# Altium integrated library National Semiconductor Switcher.IntLib: 2226 symbols (part 17 of 59)
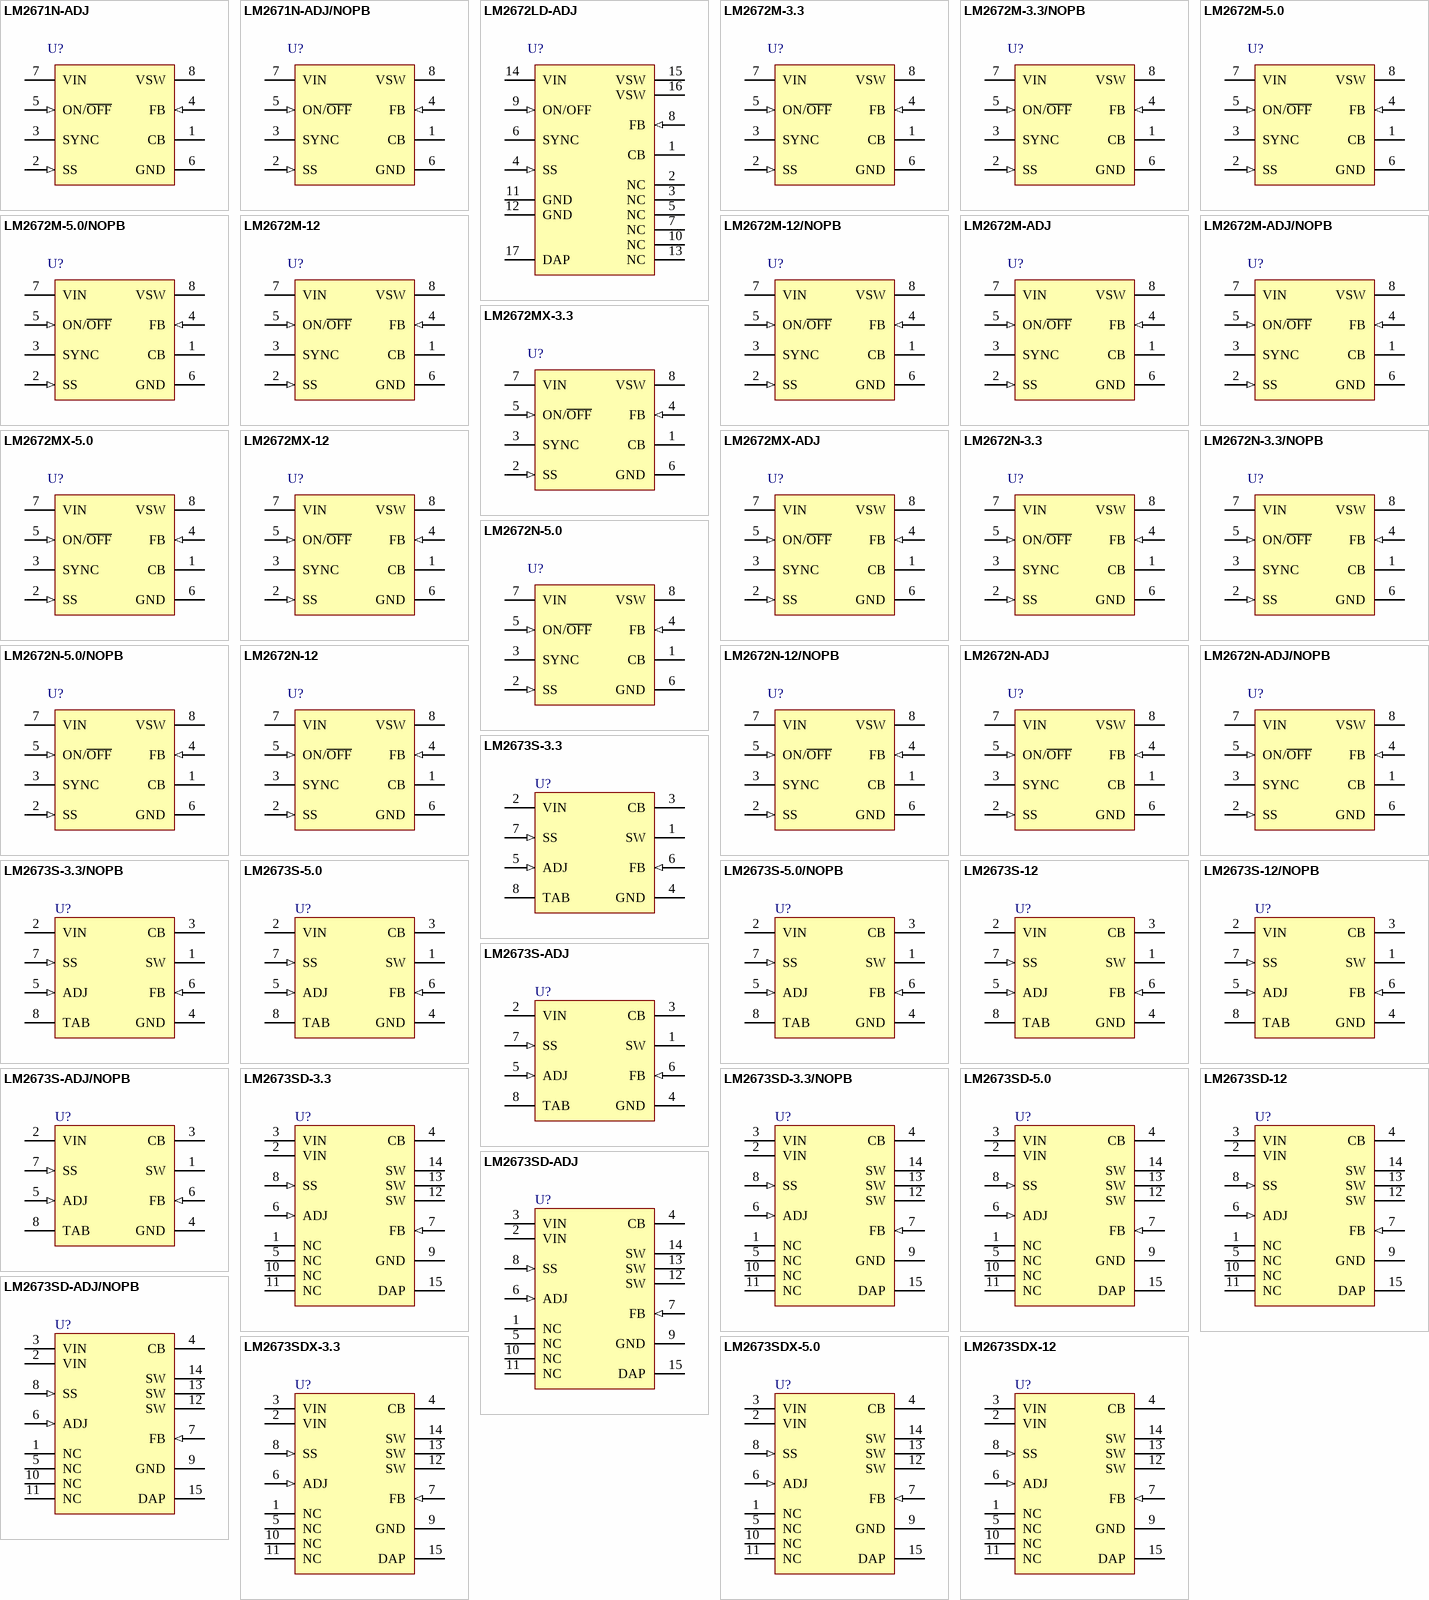
[diagram p85: symbols LM2671N-ADJ to LM2673SDX-12]

## LM2672N-3.3/NOPB
designator U?
SIMPLE SWITCHER® Power Converter High Efficiency 1A Step-Down Voltage Regulator with Features, 8-pin MDIP, Pb-Free; PartNumber: LM2672N-3.3/NOPB; Manufacturer: National Semiconductor; PackageTopMarking: NSUZXYTTE#*LM2672*N-3.3; PowerWise: N; High-Reliability: Y; DatasheetVersion: Apr-2007; PackageVersion: revG, May-2006; PackageReference: N08E; PackageDescription: MDIP, .365 x .250 x .130in, 8 Lead, .100in Pitch; RoHS: Y; PinCount: 8; CompType: Switcher; Code_JEDEC: MS-001-BA; ComponentLink1Description: Manufacturer URL; ComponentLink1URL: http://www.national.com/; ComponentLink2Description: LM2672 Datasheet; ComponentLink2URL: http://www.national.com/ds/LM/LM2672.pdf; ComponentLink3Description: LM2672 Web Page; ComponentLink3URL: http://www.national.com/pf/LM/LM2672.html; ComponentLink4Description: N08E Package Page; ComponentLink4URL: http://www.national.com/packaging/folders/n08e.html
footprint N08E (DIP, 8-Leads, Row Spacing 7.62mm, Pitch 2.54mm, Body 9.91x6.35mm)
pins: 1 CB, 2 SS (in), 3 SYNC, 4 FB (in), 5 ON/~{OFF} (in), 6 GND (power), 7 VIN (power), 8 VSW (power)

## LM2672N-5.0
designator U?
SIMPLE SWITCHER® Power Converter High Efficiency 1A Step-Down Voltage Regulator with Features, 8-pin MDIP; PartNumber: LM2672N-5.0; Manufacturer: National Semiconductor; PackageTopMarking: NSUZXYTTE#*LM2672*N-5.0; PowerWise: N; High-Reliability: Y; DatasheetVersion: Apr-2007; PackageVersion: revG, May-2006; PackageReference: N08E; PackageDescription: MDIP, .365 x .250 x .130in, 8 Lead, .100in Pitch; RoHS: N; PinCount: 8; CompType: Switcher; Code_JEDEC: MS-001-BA; ComponentLink1Description: Manufacturer URL; ComponentLink1URL: http://www.national.com/; ComponentLink2Description: LM2672 Datasheet; ComponentLink2URL: http://www.national.com/ds/LM/LM2672.pdf; ComponentLink3Description: LM2672 Web Page; ComponentLink3URL: http://www.national.com/pf/LM/LM2672.html; ComponentLink4Description: N08E Package Page; ComponentLink4URL: http://www.national.com/packaging/folders/n08e.html
footprint N08E (DIP, 8-Leads, Row Spacing 7.62mm, Pitch 2.54mm, Body 9.91x6.35mm)
pins: 1 CB, 2 SS (in), 3 SYNC, 4 FB (in), 5 ON/~{OFF} (in), 6 GND (power), 7 VIN (power), 8 VSW (power)

## LM2672N-5.0/NOPB
designator U?
SIMPLE SWITCHER® Power Converter High Efficiency 1A Step-Down Voltage Regulator with Features, 8-pin MDIP, Pb-Free; PartNumber: LM2672N-5.0/NOPB; Manufacturer: National Semiconductor; PackageTopMarking: NSUZXYTTE#*LM2672*N-5.0; PowerWise: N; High-Reliability: Y; DatasheetVersion: Apr-2007; PackageVersion: revG, May-2006; PackageReference: N08E; PackageDescription: MDIP, .365 x .250 x .130in, 8 Lead, .100in Pitch; RoHS: Y; PinCount: 8; CompType: Switcher; Code_JEDEC: MS-001-BA; ComponentLink1Description: Manufacturer URL; ComponentLink1URL: http://www.national.com/; ComponentLink2Description: LM2672 Datasheet; ComponentLink2URL: http://www.national.com/ds/LM/LM2672.pdf; ComponentLink3Description: LM2672 Web Page; ComponentLink3URL: http://www.national.com/pf/LM/LM2672.html; ComponentLink4Description: N08E Package Page; ComponentLink4URL: http://www.national.com/packaging/folders/n08e.html
footprint N08E (DIP, 8-Leads, Row Spacing 7.62mm, Pitch 2.54mm, Body 9.91x6.35mm)
pins: 1 CB, 2 SS (in), 3 SYNC, 4 FB (in), 5 ON/~{OFF} (in), 6 GND (power), 7 VIN (power), 8 VSW (power)

## LM2672N-12
designator U?
SIMPLE SWITCHER® Power Converter High Efficiency 1A Step-Down Voltage Regulator with Features, 8-pin MDIP; PartNumber: LM2672N-12; Manufacturer: National Semiconductor; PackageTopMarking: NSUZXYTTE#*LM2672*N-12; PowerWise: N; High-Reliability: Y; DatasheetVersion: Apr-2007; PackageVersion: revG, May-2006; PackageReference: N08E; PackageDescription: MDIP, .365 x .250 x .130in, 8 Lead, .100in Pitch; RoHS: N; PinCount: 8; CompType: Switcher; Code_JEDEC: MS-001-BA; ComponentLink1Description: Manufacturer URL; ComponentLink1URL: http://www.national.com/; ComponentLink2Description: LM2672 Datasheet; ComponentLink2URL: http://www.national.com/ds/LM/LM2672.pdf; ComponentLink3Description: LM2672 Web Page; ComponentLink3URL: http://www.national.com/pf/LM/LM2672.html; ComponentLink4Description: N08E Package Page; ComponentLink4URL: http://www.national.com/packaging/folders/n08e.html
footprint N08E (DIP, 8-Leads, Row Spacing 7.62mm, Pitch 2.54mm, Body 9.91x6.35mm)
pins: 1 CB, 2 SS (in), 3 SYNC, 4 FB (in), 5 ON/~{OFF} (in), 6 GND (power), 7 VIN (power), 8 VSW (power)

## LM2672N-12/NOPB
designator U?
SIMPLE SWITCHER® Power Converter High Efficiency 1A Step-Down Voltage Regulator with Features, 8-pin MDIP, Pb-Free; PartNumber: LM2672N-12/NOPB; Manufacturer: National Semiconductor; PackageTopMarking: NSUZXYTTE#*LM2672*N-12; PowerWise: N; High-Reliability: Y; DatasheetVersion: Apr-2007; PackageVersion: revG, May-2006; PackageReference: N08E; PackageDescription: MDIP, .365 x .250 x .130in, 8 Lead, .100in Pitch; RoHS: Y; PinCount: 8; CompType: Switcher; Code_JEDEC: MS-001-BA; ComponentLink1Description: Manufacturer URL; ComponentLink1URL: http://www.national.com/; ComponentLink2Description: LM2672 Datasheet; ComponentLink2URL: http://www.national.com/ds/LM/LM2672.pdf; ComponentLink3Description: LM2672 Web Page; ComponentLink3URL: http://www.national.com/pf/LM/LM2672.html; ComponentLink4Description: N08E Package Page; ComponentLink4URL: http://www.national.com/packaging/folders/n08e.html
footprint N08E (DIP, 8-Leads, Row Spacing 7.62mm, Pitch 2.54mm, Body 9.91x6.35mm)
pins: 1 CB, 2 SS (in), 3 SYNC, 4 FB (in), 5 ON/~{OFF} (in), 6 GND (power), 7 VIN (power), 8 VSW (power)

## LM2672N-ADJ
designator U?
SIMPLE SWITCHER® Power Converter High Efficiency 1A Step-Down Voltage Regulator with Features, 8-pin MDIP; PartNumber: LM2672N-ADJ; Manufacturer: National Semiconductor; PackageTopMarking: NSUZXYTTE#*LM2672*N-ADJ; PowerWise: N; High-Reliability: Y; DatasheetVersion: Apr-2007; PackageVersion: revG, May-2006; PackageReference: N08E; PackageDescription: MDIP, .365 x .250 x .130in, 8 Lead, .100in Pitch; RoHS: N; PinCount: 8; CompType: Switcher; Code_JEDEC: MS-001-BA; ComponentLink1Description: Manufacturer URL; ComponentLink1URL: http://www.national.com/; ComponentLink2Description: LM2672 Datasheet; ComponentLink2URL: http://www.national.com/ds/LM/LM2672.pdf; ComponentLink3Description: LM2672 Web Page; ComponentLink3URL: http://www.national.com/pf/LM/LM2672.html; ComponentLink4Description: N08E Package Page; ComponentLink4URL: http://www.national.com/packaging/folders/n08e.html
footprint N08E (DIP, 8-Leads, Row Spacing 7.62mm, Pitch 2.54mm, Body 9.91x6.35mm)
pins: 1 CB, 2 SS (in), 3 SYNC, 4 FB (in), 5 ON/~{OFF} (in), 6 GND (power), 7 VIN (power), 8 VSW (power)

## LM2672N-ADJ/NOPB
designator U?
SIMPLE SWITCHER® Power Converter High Efficiency 1A Step-Down Voltage Regulator with Features, 8-pin MDIP, Pb-Free; PartNumber: LM2672N-ADJ/NOPB; Manufacturer: National Semiconductor; PackageTopMarking: NSUZXYTTE#*LM2672*N-ADJ; PowerWise: N; High-Reliability: Y; DatasheetVersion: Apr-2007; PackageVersion: revG, May-2006; PackageReference: N08E; PackageDescription: MDIP, .365 x .250 x .130in, 8 Lead, .100in Pitch; RoHS: Y; PinCount: 8; CompType: Switcher; Code_JEDEC: MS-001-BA; ComponentLink1Description: Manufacturer URL; ComponentLink1URL: http://www.national.com/; ComponentLink2Description: LM2672 Datasheet; ComponentLink2URL: http://www.national.com/ds/LM/LM2672.pdf; ComponentLink3Description: LM2672 Web Page; ComponentLink3URL: http://www.national.com/pf/LM/LM2672.html; ComponentLink4Description: N08E Package Page; ComponentLink4URL: http://www.national.com/packaging/folders/n08e.html
footprint N08E (DIP, 8-Leads, Row Spacing 7.62mm, Pitch 2.54mm, Body 9.91x6.35mm)
pins: 1 CB, 2 SS (in), 3 SYNC, 4 FB (in), 5 ON/~{OFF} (in), 6 GND (power), 7 VIN (power), 8 VSW (power)

## LM2673S-3.3
designator U?
3A Step-Down Voltage Regulator with Adjustable Current Limit, 7-pin TO-263; PartNumber: LM2673S-3.3; Manufacturer: National Semiconductor; PackageTopMarking: NSUZXYTTE#*LM2673*S-3.3; PowerWise: N; CompType: Switcher; High-Reliability: Y; DatasheetVersion: Feb-2008; PackageVersion: revE, Jul-2003; PackageReference: TS7B; PackageDescription: TO-263, Molded, .400 x .390 x .180in Body, 7 Lead, .050in Pitch, Surface Mount; RoHS: N; PinCount: 7; Code_JEDEC: MO-169-AC; ComponentLink1Description: Manufacturer URL; ComponentLink1URL: http://www.national.com/; ComponentLink2Description: LM2673 Datasheet; ComponentLink2URL: http://www.national.com/ds/LM/LM2673.pdf; ComponentLink3Description: LM2673 Web Page; ComponentLink3URL: http://www.national.com/pf/LM/LM2673.html; ComponentLink4Description: TS7B Package Page; ComponentLink4URL: http://www.national.com/packaging/folders/ts7b.html
footprint TS7B_N (D2-PAK, 8-Leads, Body 8.6x10.2mm, Pitch 1.27mm, Lead Span 14.1mm, IPC Medium Density)
footprint TS7B_L (D2-PAK, 8-Leads, Body 8.6x10.2mm, Pitch 1.27mm, Lead Span 14.1mm, IPC High Density)
footprint TS7B_M (D2-PAK, 8-Leads, Body 8.6x10.2mm, Pitch 1.27mm, Lead Span 14.1mm, IPC Low Density)
pins: 1 SW (power), 2 VIN (power), 3 CB, 4 GND (power), 5 ADJ (in), 6 FB (in), 7 SS (in), 8 TAB (power)

## LM2673S-3.3/NOPB
designator U?
3A Step-Down Voltage Regulator with Adjustable Current Limit, 7-pin TO-263, Pb-Free; PartNumber: LM2673S-3.3/NOPB; Manufacturer: National Semiconductor; PackageTopMarking: NSUZXYTTE#*LM2673*S-3.3; PowerWise: N; CompType: Switcher; High-Reliability: Y; DatasheetVersion: Feb-2008; PackageVersion: revE, Jul-2003; PackageReference: TS7B; PackageDescription: TO-263, Molded, .400 x .390 x .180in Body, 7 Lead, .050in Pitch, Surface Mount; RoHS: Y; PinCount: 7; Code_JEDEC: MO-169-AC; ComponentLink1Description: Manufacturer URL; ComponentLink1URL: http://www.national.com/; ComponentLink2Description: LM2673 Datasheet; ComponentLink2URL: http://www.national.com/ds/LM/LM2673.pdf; ComponentLink3Description: LM2673 Web Page; ComponentLink3URL: http://www.national.com/pf/LM/LM2673.html; ComponentLink4Description: TS7B Package Page; ComponentLink4URL: http://www.national.com/packaging/folders/ts7b.html
footprint TS7B_N (D2-PAK, 8-Leads, Body 8.6x10.2mm, Pitch 1.27mm, Lead Span 14.1mm, IPC Medium Density)
footprint TS7B_L (D2-PAK, 8-Leads, Body 8.6x10.2mm, Pitch 1.27mm, Lead Span 14.1mm, IPC High Density)
footprint TS7B_M (D2-PAK, 8-Leads, Body 8.6x10.2mm, Pitch 1.27mm, Lead Span 14.1mm, IPC Low Density)
pins: 1 SW (power), 2 VIN (power), 3 CB, 4 GND (power), 5 ADJ (in), 6 FB (in), 7 SS (in), 8 TAB (power)

## LM2673S-5.0
designator U?
3A Step-Down Voltage Regulator with Adjustable Current Limit, 7-pin TO-263; PartNumber: LM2673S-5.0; Manufacturer: National Semiconductor; PackageTopMarking: NSUZXYTTE#*LM2673*S-5.0; PowerWise: N; CompType: Switcher; High-Reliability: Y; DatasheetVersion: Feb-2008; PackageVersion: revE, Jul-2003; PackageReference: TS7B; PackageDescription: TO-263, Molded, .400 x .390 x .180in Body, 7 Lead, .050in Pitch, Surface Mount; RoHS: N; PinCount: 7; Code_JEDEC: MO-169-AC; ComponentLink1Description: Manufacturer URL; ComponentLink1URL: http://www.national.com/; ComponentLink2Description: LM2673 Datasheet; ComponentLink2URL: http://www.national.com/ds/LM/LM2673.pdf; ComponentLink3Description: LM2673 Web Page; ComponentLink3URL: http://www.national.com/pf/LM/LM2673.html; ComponentLink4Description: TS7B Package Page; ComponentLink4URL: http://www.national.com/packaging/folders/ts7b.html
footprint TS7B_N (D2-PAK, 8-Leads, Body 8.6x10.2mm, Pitch 1.27mm, Lead Span 14.1mm, IPC Medium Density)
footprint TS7B_L (D2-PAK, 8-Leads, Body 8.6x10.2mm, Pitch 1.27mm, Lead Span 14.1mm, IPC High Density)
footprint TS7B_M (D2-PAK, 8-Leads, Body 8.6x10.2mm, Pitch 1.27mm, Lead Span 14.1mm, IPC Low Density)
pins: 1 SW (power), 2 VIN (power), 3 CB, 4 GND (power), 5 ADJ (in), 6 FB (in), 7 SS (in), 8 TAB (power)

## LM2673S-5.0/NOPB
designator U?
3A Step-Down Voltage Regulator with Adjustable Current Limit, 7-pin TO-263, Pb-Free; PartNumber: LM2673S-5.0/NOPB; Manufacturer: National Semiconductor; PackageTopMarking: NSUZXYTTE#*LM2673*S-5.0; PowerWise: N; CompType: Switcher; High-Reliability: Y; DatasheetVersion: Feb-2008; PackageVersion: revE, Jul-2003; PackageReference: TS7B; PackageDescription: TO-263, Molded, .400 x .390 x .180in Body, 7 Lead, .050in Pitch, Surface Mount; RoHS: Y; PinCount: 7; Code_JEDEC: MO-169-AC; ComponentLink1Description: Manufacturer URL; ComponentLink1URL: http://www.national.com/; ComponentLink2Description: LM2673 Datasheet; ComponentLink2URL: http://www.national.com/ds/LM/LM2673.pdf; ComponentLink3Description: LM2673 Web Page; ComponentLink3URL: http://www.national.com/pf/LM/LM2673.html; ComponentLink4Description: TS7B Package Page; ComponentLink4URL: http://www.national.com/packaging/folders/ts7b.html
footprint TS7B_N (D2-PAK, 8-Leads, Body 8.6x10.2mm, Pitch 1.27mm, Lead Span 14.1mm, IPC Medium Density)
footprint TS7B_L (D2-PAK, 8-Leads, Body 8.6x10.2mm, Pitch 1.27mm, Lead Span 14.1mm, IPC High Density)
footprint TS7B_M (D2-PAK, 8-Leads, Body 8.6x10.2mm, Pitch 1.27mm, Lead Span 14.1mm, IPC Low Density)
pins: 1 SW (power), 2 VIN (power), 3 CB, 4 GND (power), 5 ADJ (in), 6 FB (in), 7 SS (in), 8 TAB (power)

## LM2673S-12
designator U?
3A Step-Down Voltage Regulator with Adjustable Current Limit, 7-pin TO-263; PartNumber: LM2673S-12; Manufacturer: National Semiconductor; PackageTopMarking: NSUZXYTTE#*LM2673*S-12; PowerWise: N; CompType: Switcher; High-Reliability: Y; DatasheetVersion: Feb-2008; PackageVersion: revE, Jul-2003; PackageReference: TS7B; PackageDescription: TO-263, Molded, .400 x .390 x .180in Body, 7 Lead, .050in Pitch, Surface Mount; RoHS: N; PinCount: 7; Code_JEDEC: MO-169-AC; ComponentLink1Description: Manufacturer URL; ComponentLink1URL: http://www.national.com/; ComponentLink2Description: LM2673 Datasheet; ComponentLink2URL: http://www.national.com/ds/LM/LM2673.pdf; ComponentLink3Description: LM2673 Web Page; ComponentLink3URL: http://www.national.com/pf/LM/LM2673.html; ComponentLink4Description: TS7B Package Page; ComponentLink4URL: http://www.national.com/packaging/folders/ts7b.html
footprint TS7B_N (D2-PAK, 8-Leads, Body 8.6x10.2mm, Pitch 1.27mm, Lead Span 14.1mm, IPC Medium Density)
footprint TS7B_L (D2-PAK, 8-Leads, Body 8.6x10.2mm, Pitch 1.27mm, Lead Span 14.1mm, IPC High Density)
footprint TS7B_M (D2-PAK, 8-Leads, Body 8.6x10.2mm, Pitch 1.27mm, Lead Span 14.1mm, IPC Low Density)
pins: 1 SW (power), 2 VIN (power), 3 CB, 4 GND (power), 5 ADJ (in), 6 FB (in), 7 SS (in), 8 TAB (power)

## LM2673S-12/NOPB
designator U?
3A Step-Down Voltage Regulator with Adjustable Current Limit, 7-pin TO-263, Pb-Free; PartNumber: LM2673S-12/NOPB; Manufacturer: National Semiconductor; PackageTopMarking: NSUZXYTTE#*LM2673*S-12; PowerWise: N; CompType: Switcher; High-Reliability: Y; DatasheetVersion: Feb-2008; PackageVersion: revE, Jul-2003; PackageReference: TS7B; PackageDescription: TO-263, Molded, .400 x .390 x .180in Body, 7 Lead, .050in Pitch, Surface Mount; RoHS: Y; PinCount: 7; Code_JEDEC: MO-169-AC; ComponentLink1Description: Manufacturer URL; ComponentLink1URL: http://www.national.com/; ComponentLink2Description: LM2673 Datasheet; ComponentLink2URL: http://www.national.com/ds/LM/LM2673.pdf; ComponentLink3Description: LM2673 Web Page; ComponentLink3URL: http://www.national.com/pf/LM/LM2673.html; ComponentLink4Description: TS7B Package Page; ComponentLink4URL: http://www.national.com/packaging/folders/ts7b.html
footprint TS7B_N (D2-PAK, 8-Leads, Body 8.6x10.2mm, Pitch 1.27mm, Lead Span 14.1mm, IPC Medium Density)
footprint TS7B_L (D2-PAK, 8-Leads, Body 8.6x10.2mm, Pitch 1.27mm, Lead Span 14.1mm, IPC High Density)
footprint TS7B_M (D2-PAK, 8-Leads, Body 8.6x10.2mm, Pitch 1.27mm, Lead Span 14.1mm, IPC Low Density)
pins: 1 SW (power), 2 VIN (power), 3 CB, 4 GND (power), 5 ADJ (in), 6 FB (in), 7 SS (in), 8 TAB (power)

## LM2673S-ADJ
designator U?
3A Step-Down Voltage Regulator with Adjustable Current Limit, 7-pin TO-263; PartNumber: LM2673S-ADJ; Manufacturer: National Semiconductor; PackageTopMarking: NSUZXYTTE#*LM2673*S-ADJ; PowerWise: N; CompType: Switcher; High-Reliability: Y; DatasheetVersion: Feb-2008; PackageVersion: revE, Jul-2003; PackageReference: TS7B; PackageDescription: TO-263, Molded, .400 x .390 x .180in Body, 7 Lead, .050in Pitch, Surface Mount; RoHS: N; PinCount: 7; Code_JEDEC: MO-169-AC; ComponentLink1Description: Manufacturer URL; ComponentLink1URL: http://www.national.com/; ComponentLink2Description: LM2673 Datasheet; ComponentLink2URL: http://www.national.com/ds/LM/LM2673.pdf; ComponentLink3Description: LM2673 Web Page; ComponentLink3URL: http://www.national.com/pf/LM/LM2673.html; ComponentLink4Description: TS7B Package Page; ComponentLink4URL: http://www.national.com/packaging/folders/ts7b.html
footprint TS7B_N (D2-PAK, 8-Leads, Body 8.6x10.2mm, Pitch 1.27mm, Lead Span 14.1mm, IPC Medium Density)
footprint TS7B_L (D2-PAK, 8-Leads, Body 8.6x10.2mm, Pitch 1.27mm, Lead Span 14.1mm, IPC High Density)
footprint TS7B_M (D2-PAK, 8-Leads, Body 8.6x10.2mm, Pitch 1.27mm, Lead Span 14.1mm, IPC Low Density)
pins: 1 SW (power), 2 VIN (power), 3 CB, 4 GND (power), 5 ADJ (in), 6 FB (in), 7 SS (in), 8 TAB (power)

## LM2673S-ADJ/NOPB
designator U?
3A Step-Down Voltage Regulator with Adjustable Current Limit, 7-pin TO-263, Pb-Free; PartNumber: LM2673S-ADJ/NOPB; Manufacturer: National Semiconductor; PackageTopMarking: NSUZXYTTE#*LM2673*S-ADJ; PowerWise: N; CompType: Switcher; High-Reliability: Y; DatasheetVersion: Feb-2008; PackageVersion: revE, Jul-2003; PackageReference: TS7B; PackageDescription: TO-263, Molded, .400 x .390 x .180in Body, 7 Lead, .050in Pitch, Surface Mount; RoHS: Y; PinCount: 7; Code_JEDEC: MO-169-AC; ComponentLink1Description: Manufacturer URL; ComponentLink1URL: http://www.national.com/; ComponentLink2Description: LM2673 Datasheet; ComponentLink2URL: http://www.national.com/ds/LM/LM2673.pdf; ComponentLink3Description: LM2673 Web Page; ComponentLink3URL: http://www.national.com/pf/LM/LM2673.html; ComponentLink4Description: TS7B Package Page; ComponentLink4URL: http://www.national.com/packaging/folders/ts7b.html
footprint TS7B_N (D2-PAK, 8-Leads, Body 8.6x10.2mm, Pitch 1.27mm, Lead Span 14.1mm, IPC Medium Density)
footprint TS7B_L (D2-PAK, 8-Leads, Body 8.6x10.2mm, Pitch 1.27mm, Lead Span 14.1mm, IPC High Density)
footprint TS7B_M (D2-PAK, 8-Leads, Body 8.6x10.2mm, Pitch 1.27mm, Lead Span 14.1mm, IPC Low Density)
pins: 1 SW (power), 2 VIN (power), 3 CB, 4 GND (power), 5 ADJ (in), 6 FB (in), 7 SS (in), 8 TAB (power)

## LM2673SD-3.3
designator U?
3A Step-Down Voltage Regulator with Adjustable Current Limit, 14-pin LLP; PartNumber: LM2673SD-3.3; Manufacturer: National Semiconductor; PackageTopMarking: NS*UZXYTT*S0002TB; PowerWise: N; CompType: Switcher; High-Reliability: Y; DatasheetVersion: Feb-2008; PackageVersion: revA, Jul-2003; PackageReference: SRC14A; PackageDescription: LLP, Plastic, Dual, 6 x 5 x 1mm Body, 14 Lead, 0.8mm Pitch, No Pullback; RoHS: N; PinCount: 14; ComponentLink1Description: Manufacturer URL; ComponentLink1URL: http://www.national.com/; ComponentLink2Description: LM2673 Datasheet; ComponentLink2URL: http://www.national.com/ds/LM/LM2673.pdf; ComponentLink3Description: LM2673 Web Page; ComponentLink3URL: http://www.national.com/pf/LM/LM2673.html; ComponentLink4Description: SRC14A Package Page; ComponentLink4URL: http://www.national.com/packaging/folders/src14a.html
footprint SRC14A (SON, 14-Leads, Body 6x5 mm, Pitch 0.8mm, NSC Recommended)
pins: 1 NC, 2 VIN (power), 3 VIN (power), 4 CB, 5 NC, 6 ADJ (in), 7 FB (in), 8 SS (in), 9 GND (power), 10 NC, 11 NC, 12 SW (power), 13 SW (power), 14 SW (power), 15 DAP (power)

## LM2673SD-3.3/NOPB
designator U?
3A Step-Down Voltage Regulator with Adjustable Current Limit, 14-pin LLP, Pb-Free; PartNumber: LM2673SD-3.3/NOPB; Manufacturer: National Semiconductor; PackageTopMarking: NS*UZXYTT*S0002TB; PowerWise: N; CompType: Switcher; High-Reliability: Y; DatasheetVersion: Feb-2008; PackageVersion: revA, Jul-2003; PackageReference: SRC14A; PackageDescription: LLP, Plastic, Dual, 6 x 5 x 1mm Body, 14 Lead, 0.8mm Pitch, No Pullback; RoHS: Y; PinCount: 14; ComponentLink1Description: Manufacturer URL; ComponentLink1URL: http://www.national.com/; ComponentLink2Description: LM2673 Datasheet; ComponentLink2URL: http://www.national.com/ds/LM/LM2673.pdf; ComponentLink3Description: LM2673 Web Page; ComponentLink3URL: http://www.national.com/pf/LM/LM2673.html; ComponentLink4Description: SRC14A Package Page; ComponentLink4URL: http://www.national.com/packaging/folders/src14a.html
footprint SRC14A (SON, 14-Leads, Body 6x5 mm, Pitch 0.8mm, NSC Recommended)
pins: 1 NC, 2 VIN (power), 3 VIN (power), 4 CB, 5 NC, 6 ADJ (in), 7 FB (in), 8 SS (in), 9 GND (power), 10 NC, 11 NC, 12 SW (power), 13 SW (power), 14 SW (power), 15 DAP (power)

## LM2673SD-5.0
designator U?
3A Step-Down Voltage Regulator with Adjustable Current Limit, 14-pin LLP; PartNumber: LM2673SD-5.0; Manufacturer: National Semiconductor; PackageTopMarking: NS*UZXYTT*S0002UB; PowerWise: N; CompType: Switcher; High-Reliability: Y; DatasheetVersion: Feb-2008; PackageVersion: revA, Jul-2003; PackageReference: SRC14A; PackageDescription: LLP, Plastic, Dual, 6 x 5 x 1mm Body, 14 Lead, 0.8mm Pitch, No Pullback; RoHS: N; PinCount: 14; ComponentLink1Description: Manufacturer URL; ComponentLink1URL: http://www.national.com/; ComponentLink2Description: LM2673 Datasheet; ComponentLink2URL: http://www.national.com/ds/LM/LM2673.pdf; ComponentLink3Description: LM2673 Web Page; ComponentLink3URL: http://www.national.com/pf/LM/LM2673.html; ComponentLink4Description: SRC14A Package Page; ComponentLink4URL: http://www.national.com/packaging/folders/src14a.html
footprint SRC14A (SON, 14-Leads, Body 6x5 mm, Pitch 0.8mm, NSC Recommended)
pins: 1 NC, 2 VIN (power), 3 VIN (power), 4 CB, 5 NC, 6 ADJ (in), 7 FB (in), 8 SS (in), 9 GND (power), 10 NC, 11 NC, 12 SW (power), 13 SW (power), 14 SW (power), 15 DAP (power)

## LM2673SD-12
designator U?
3A Step-Down Voltage Regulator with Adjustable Current Limit, 14-pin LLP; PartNumber: LM2673SD-12; Manufacturer: National Semiconductor; PackageTopMarking: NS*UZXYTT*S0002SB; PowerWise: N; CompType: Switcher; High-Reliability: Y; DatasheetVersion: Feb-2008; PackageVersion: revA, Jul-2003; PackageReference: SRC14A; PackageDescription: LLP, Plastic, Dual, 6 x 5 x 1mm Body, 14 Lead, 0.8mm Pitch, No Pullback; RoHS: N; PinCount: 14; ComponentLink1Description: Manufacturer URL; ComponentLink1URL: http://www.national.com/; ComponentLink2Description: LM2673 Datasheet; ComponentLink2URL: http://www.national.com/ds/LM/LM2673.pdf; ComponentLink3Description: LM2673 Web Page; ComponentLink3URL: http://www.national.com/pf/LM/LM2673.html; ComponentLink4Description: SRC14A Package Page; ComponentLink4URL: http://www.national.com/packaging/folders/src14a.html
footprint SRC14A (SON, 14-Leads, Body 6x5 mm, Pitch 0.8mm, NSC Recommended)
pins: 1 NC, 2 VIN (power), 3 VIN (power), 4 CB, 5 NC, 6 ADJ (in), 7 FB (in), 8 SS (in), 9 GND (power), 10 NC, 11 NC, 12 SW (power), 13 SW (power), 14 SW (power), 15 DAP (power)

## LM2673SD-ADJ
designator U?
3A Step-Down Voltage Regulator with Adjustable Current Limit, 14-pin LLP; PartNumber: LM2673SD-ADJ; Manufacturer: National Semiconductor; PackageTopMarking: NS*UZXYTT*S0002VB; PowerWise: N; CompType: Switcher; High-Reliability: Y; DatasheetVersion: Feb-2008; PackageVersion: revA, Jul-2003; PackageReference: SRC14A; PackageDescription: LLP, Plastic, Dual, 6 x 5 x 1mm Body, 14 Lead, 0.8mm Pitch, No Pullback; RoHS: N; PinCount: 14; ComponentLink1Description: Manufacturer URL; ComponentLink1URL: http://www.national.com/; ComponentLink2Description: LM2673 Datasheet; ComponentLink2URL: http://www.national.com/ds/LM/LM2673.pdf; ComponentLink3Description: LM2673 Web Page; ComponentLink3URL: http://www.national.com/pf/LM/LM2673.html; ComponentLink4Description: SRC14A Package Page; ComponentLink4URL: http://www.national.com/packaging/folders/src14a.html
footprint SRC14A (SON, 14-Leads, Body 6x5 mm, Pitch 0.8mm, NSC Recommended)
pins: 1 NC, 2 VIN (power), 3 VIN (power), 4 CB, 5 NC, 6 ADJ (in), 7 FB (in), 8 SS (in), 9 GND (power), 10 NC, 11 NC, 12 SW (power), 13 SW (power), 14 SW (power), 15 DAP (power)

## LM2673SD-ADJ/NOPB
designator U?
3A Step-Down Voltage Regulator with Adjustable Current Limit, 14-pin LLP, Pb-Free; PartNumber: LM2673SD-ADJ/NOPB; Manufacturer: National Semiconductor; PackageTopMarking: NS*UZXYTT*S0002VB; PowerWise: N; CompType: Switcher; High-Reliability: Y; DatasheetVersion: Feb-2008; PackageVersion: revA, Jul-2003; PackageReference: SRC14A; PackageDescription: LLP, Plastic, Dual, 6 x 5 x 1mm Body, 14 Lead, 0.8mm Pitch, No Pullback; RoHS: Y; PinCount: 14; ComponentLink1Description: Manufacturer URL; ComponentLink1URL: http://www.national.com/; ComponentLink2Description: LM2673 Datasheet; ComponentLink2URL: http://www.national.com/ds/LM/LM2673.pdf; ComponentLink3Description: LM2673 Web Page; ComponentLink3URL: http://www.national.com/pf/LM/LM2673.html; ComponentLink4Description: SRC14A Package Page; ComponentLink4URL: http://www.national.com/packaging/folders/src14a.html
footprint SRC14A (SON, 14-Leads, Body 6x5 mm, Pitch 0.8mm, NSC Recommended)
pins: 1 NC, 2 VIN (power), 3 VIN (power), 4 CB, 5 NC, 6 ADJ (in), 7 FB (in), 8 SS (in), 9 GND (power), 10 NC, 11 NC, 12 SW (power), 13 SW (power), 14 SW (power), 15 DAP (power)

## LM2673SDX-3.3
designator U?
3A Step-Down Voltage Regulator with Adjustable Current Limit, 14-pin LLP; PartNumber: LM2673SDX-3.3; Manufacturer: National Semiconductor; PackageTopMarking: NS*UZXYTT*S0002TB; PowerWise: N; CompType: Switcher; High-Reliability: Y; DatasheetVersion: Feb-2008; PackageVersion: revA, Jul-2003; PackageReference: SRC14A; PackageDescription: LLP, Plastic, Dual, 6 x 5 x 1mm Body, 14 Lead, 0.8mm Pitch, No Pullback; RoHS: N; PinCount: 14; ComponentLink1Description: Manufacturer URL; ComponentLink1URL: http://www.national.com/; ComponentLink2Description: LM2673 Datasheet; ComponentLink2URL: http://www.national.com/ds/LM/LM2673.pdf; ComponentLink3Description: LM2673 Web Page; ComponentLink3URL: http://www.national.com/pf/LM/LM2673.html; ComponentLink4Description: SRC14A Package Page; ComponentLink4URL: http://www.national.com/packaging/folders/src14a.html
footprint SRC14A (SON, 14-Leads, Body 6x5 mm, Pitch 0.8mm, NSC Recommended)
pins: 1 NC, 2 VIN (power), 3 VIN (power), 4 CB, 5 NC, 6 ADJ (in), 7 FB (in), 8 SS (in), 9 GND (power), 10 NC, 11 NC, 12 SW (power), 13 SW (power), 14 SW (power), 15 DAP (power)

## LM2673SDX-5.0
designator U?
3A Step-Down Voltage Regulator with Adjustable Current Limit, 14-pin LLP; PartNumber: LM2673SDX-5.0; Manufacturer: National Semiconductor; PackageTopMarking: NS*UZXYTT*S0002UB; PowerWise: N; CompType: Switcher; High-Reliability: Y; DatasheetVersion: Feb-2008; PackageVersion: revA, Jul-2003; PackageReference: SRC14A; PackageDescription: LLP, Plastic, Dual, 6 x 5 x 1mm Body, 14 Lead, 0.8mm Pitch, No Pullback; RoHS: N; PinCount: 14; ComponentLink1Description: Manufacturer URL; ComponentLink1URL: http://www.national.com/; ComponentLink2Description: LM2673 Datasheet; ComponentLink2URL: http://www.national.com/ds/LM/LM2673.pdf; ComponentLink3Description: LM2673 Web Page; ComponentLink3URL: http://www.national.com/pf/LM/LM2673.html; ComponentLink4Description: SRC14A Package Page; ComponentLink4URL: http://www.national.com/packaging/folders/src14a.html
footprint SRC14A (SON, 14-Leads, Body 6x5 mm, Pitch 0.8mm, NSC Recommended)
pins: 1 NC, 2 VIN (power), 3 VIN (power), 4 CB, 5 NC, 6 ADJ (in), 7 FB (in), 8 SS (in), 9 GND (power), 10 NC, 11 NC, 12 SW (power), 13 SW (power), 14 SW (power), 15 DAP (power)

## LM2673SDX-12
designator U?
3A Step-Down Voltage Regulator with Adjustable Current Limit, 14-pin LLP; PartNumber: LM2673SDX-12; Manufacturer: National Semiconductor; PackageTopMarking: NS*UZXYTT*S0002SB; PowerWise: N; CompType: Switcher; High-Reliability: Y; DatasheetVersion: Feb-2008; PackageVersion: revA, Jul-2003; PackageReference: SRC14A; PackageDescription: LLP, Plastic, Dual, 6 x 5 x 1mm Body, 14 Lead, 0.8mm Pitch, No Pullback; RoHS: N; PinCount: 14; ComponentLink1Description: Manufacturer URL; ComponentLink1URL: http://www.national.com/; ComponentLink2Description: LM2673 Datasheet; ComponentLink2URL: http://www.national.com/ds/LM/LM2673.pdf; ComponentLink3Description: LM2673 Web Page; ComponentLink3URL: http://www.national.com/pf/LM/LM2673.html; ComponentLink4Description: SRC14A Package Page; ComponentLink4URL: http://www.national.com/packaging/folders/src14a.html
footprint SRC14A (SON, 14-Leads, Body 6x5 mm, Pitch 0.8mm, NSC Recommended)
pins: 1 NC, 2 VIN (power), 3 VIN (power), 4 CB, 5 NC, 6 ADJ (in), 7 FB (in), 8 SS (in), 9 GND (power), 10 NC, 11 NC, 12 SW (power), 13 SW (power), 14 SW (power), 15 DAP (power)

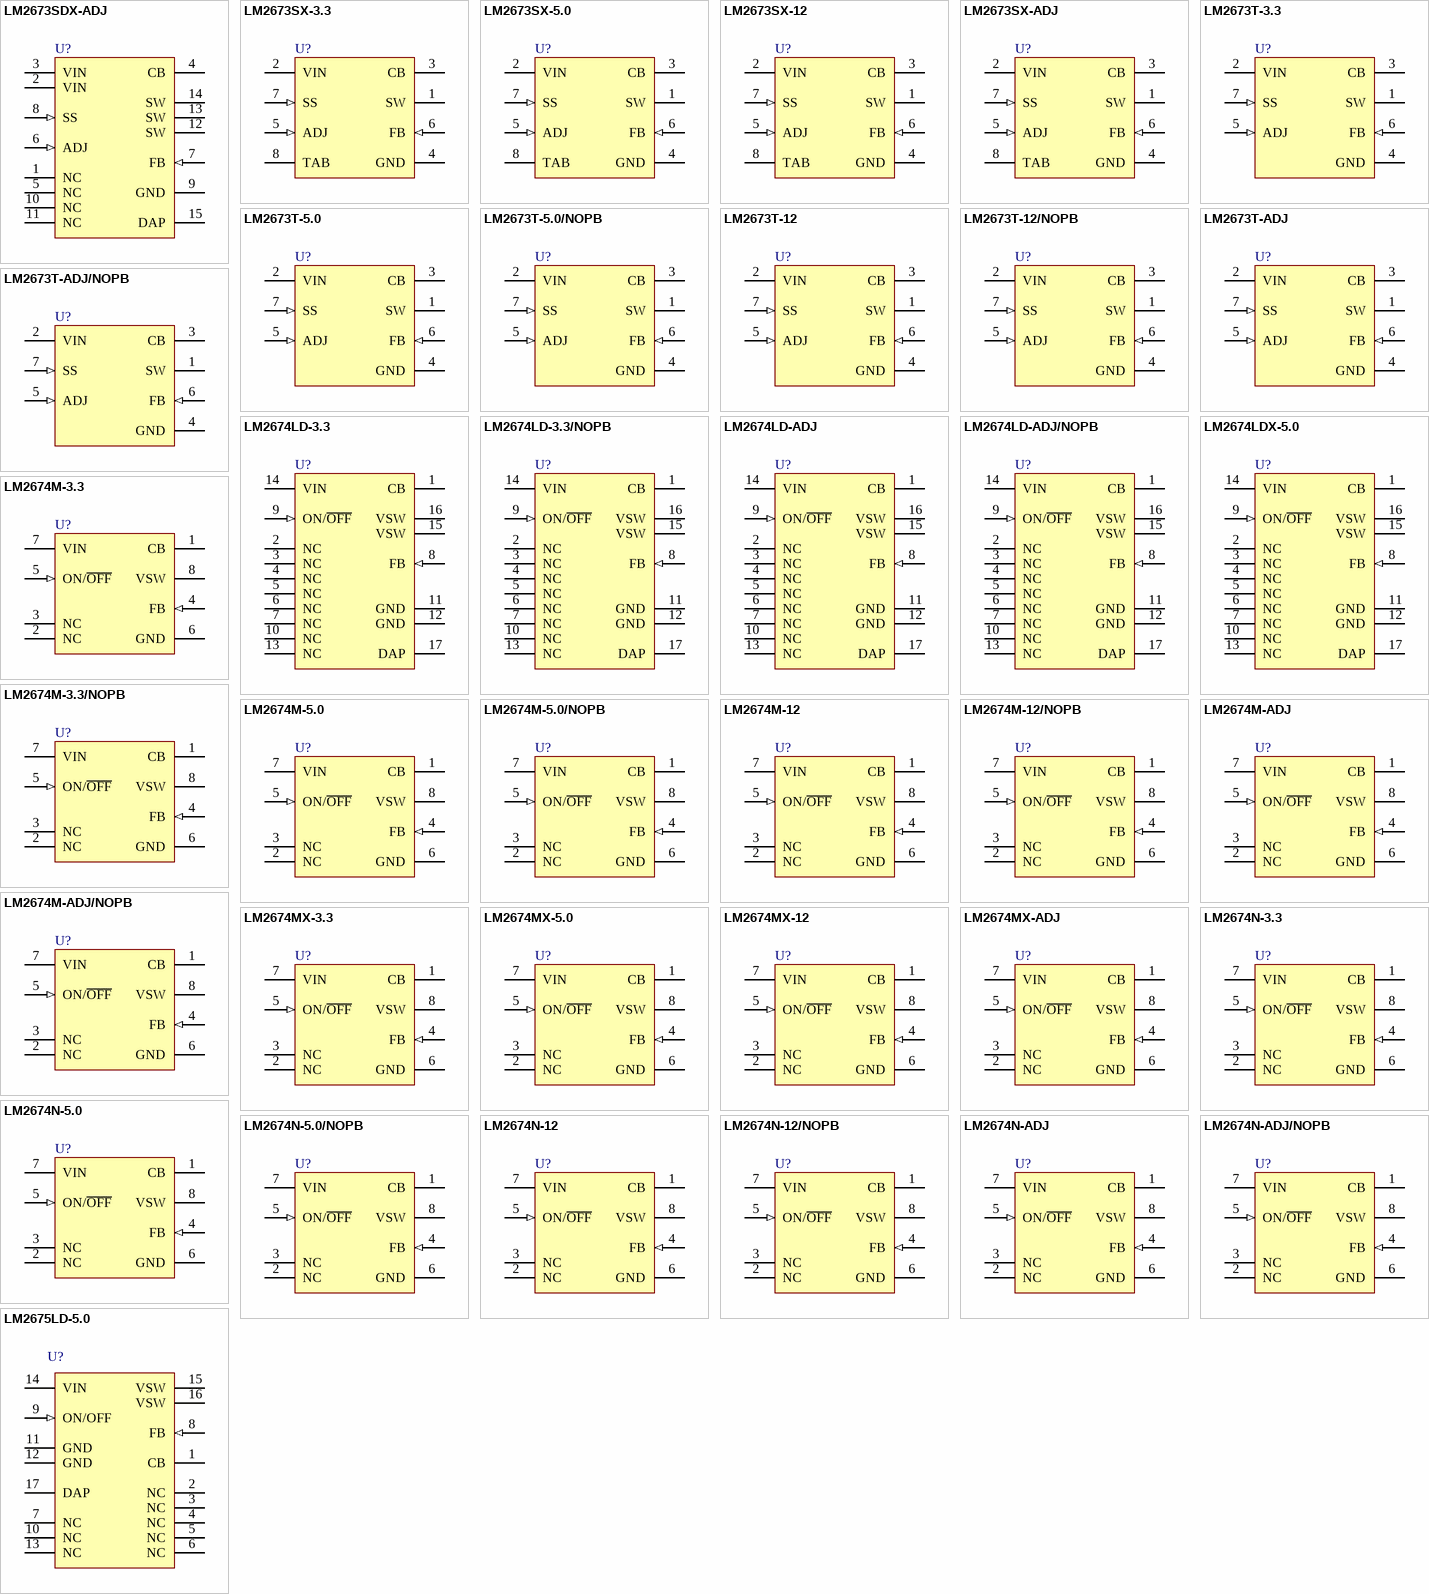
[diagram p18: symbols LM2673SDX-ADJ to LM2675LD-5.0]

## LM2673SDX-ADJ
designator U?
3A Step-Down Voltage Regulator with Adjustable Current Limit, 14-pin LLP; PartNumber: LM2673SDX-ADJ; Manufacturer: National Semiconductor; PackageTopMarking: NS*UZXYTT*S0002VB; PowerWise: N; CompType: Switcher; High-Reliability: Y; DatasheetVersion: Feb-2008; PackageVersion: revA, Jul-2003; PackageReference: SRC14A; PackageDescription: LLP, Plastic, Dual, 6 x 5 x 1mm Body, 14 Lead, 0.8mm Pitch, No Pullback; RoHS: N; PinCount: 14; ComponentLink1Description: Manufacturer URL; ComponentLink1URL: http://www.national.com/; ComponentLink2Description: LM2673 Datasheet; ComponentLink2URL: http://www.national.com/ds/LM/LM2673.pdf; ComponentLink3Description: LM2673 Web Page; ComponentLink3URL: http://www.national.com/pf/LM/LM2673.html; ComponentLink4Description: SRC14A Package Page; ComponentLink4URL: http://www.national.com/packaging/folders/src14a.html
footprint SRC14A (SON, 14-Leads, Body 6x5 mm, Pitch 0.8mm, NSC Recommended)
pins: 1 NC, 2 VIN (power), 3 VIN (power), 4 CB, 5 NC, 6 ADJ (in), 7 FB (in), 8 SS (in), 9 GND (power), 10 NC, 11 NC, 12 SW (power), 13 SW (power), 14 SW (power), 15 DAP (power)

## LM2673SX-3.3
designator U?
3A Step-Down Voltage Regulator with Adjustable Current Limit, 7-pin TO-263; PartNumber: LM2673SX-3.3; Manufacturer: National Semiconductor; PackageTopMarking: NSUZXYTTE#*LM2673*S-3.3; PowerWise: N; CompType: Switcher; High-Reliability: Y; DatasheetVersion: Feb-2008; PackageVersion: revE, Jul-2003; PackageReference: TS7B; PackageDescription: TO-263, Molded, .400 x .390 x .180in Body, 7 Lead, .050in Pitch, Surface Mount; RoHS: N; PinCount: 7; Code_JEDEC: MO-169-AC; ComponentLink1Description: Manufacturer URL; ComponentLink1URL: http://www.national.com/; ComponentLink2Description: LM2673 Datasheet; ComponentLink2URL: http://www.national.com/ds/LM/LM2673.pdf; ComponentLink3Description: LM2673 Web Page; ComponentLink3URL: http://www.national.com/pf/LM/LM2673.html; ComponentLink4Description: TS7B Package Page; ComponentLink4URL: http://www.national.com/packaging/folders/ts7b.html
footprint TS7B_N (D2-PAK, 8-Leads, Body 8.6x10.2mm, Pitch 1.27mm, Lead Span 14.1mm, IPC Medium Density)
footprint TS7B_L (D2-PAK, 8-Leads, Body 8.6x10.2mm, Pitch 1.27mm, Lead Span 14.1mm, IPC High Density)
footprint TS7B_M (D2-PAK, 8-Leads, Body 8.6x10.2mm, Pitch 1.27mm, Lead Span 14.1mm, IPC Low Density)
pins: 1 SW (power), 2 VIN (power), 3 CB, 4 GND (power), 5 ADJ (in), 6 FB (in), 7 SS (in), 8 TAB (power)

## LM2673SX-5.0
designator U?
3A Step-Down Voltage Regulator with Adjustable Current Limit, 7-pin TO-263; PartNumber: LM2673SX-5.0; Manufacturer: National Semiconductor; PackageTopMarking: NSUZXYTTE#*LM2673*S-5.0; PowerWise: N; CompType: Switcher; High-Reliability: Y; DatasheetVersion: Feb-2008; PackageVersion: revE, Jul-2003; PackageReference: TS7B; PackageDescription: TO-263, Molded, .400 x .390 x .180in Body, 7 Lead, .050in Pitch, Surface Mount; RoHS: N; PinCount: 7; Code_JEDEC: MO-169-AC; ComponentLink1Description: Manufacturer URL; ComponentLink1URL: http://www.national.com/; ComponentLink2Description: LM2673 Datasheet; ComponentLink2URL: http://www.national.com/ds/LM/LM2673.pdf; ComponentLink3Description: LM2673 Web Page; ComponentLink3URL: http://www.national.com/pf/LM/LM2673.html; ComponentLink4Description: TS7B Package Page; ComponentLink4URL: http://www.national.com/packaging/folders/ts7b.html
footprint TS7B_N (D2-PAK, 8-Leads, Body 8.6x10.2mm, Pitch 1.27mm, Lead Span 14.1mm, IPC Medium Density)
footprint TS7B_L (D2-PAK, 8-Leads, Body 8.6x10.2mm, Pitch 1.27mm, Lead Span 14.1mm, IPC High Density)
footprint TS7B_M (D2-PAK, 8-Leads, Body 8.6x10.2mm, Pitch 1.27mm, Lead Span 14.1mm, IPC Low Density)
pins: 1 SW (power), 2 VIN (power), 3 CB, 4 GND (power), 5 ADJ (in), 6 FB (in), 7 SS (in), 8 TAB (power)

## LM2673SX-12
designator U?
3A Step-Down Voltage Regulator with Adjustable Current Limit, 7-pin TO-263; PartNumber: LM2673SX-12; Manufacturer: National Semiconductor; PackageTopMarking: NSUZXYTTE#*LM2673*S-12; PowerWise: N; CompType: Switcher; High-Reliability: Y; DatasheetVersion: Feb-2008; PackageVersion: revE, Jul-2003; PackageReference: TS7B; PackageDescription: TO-263, Molded, .400 x .390 x .180in Body, 7 Lead, .050in Pitch, Surface Mount; RoHS: N; PinCount: 7; Code_JEDEC: MO-169-AC; ComponentLink1Description: Manufacturer URL; ComponentLink1URL: http://www.national.com/; ComponentLink2Description: LM2673 Datasheet; ComponentLink2URL: http://www.national.com/ds/LM/LM2673.pdf; ComponentLink3Description: LM2673 Web Page; ComponentLink3URL: http://www.national.com/pf/LM/LM2673.html; ComponentLink4Description: TS7B Package Page; ComponentLink4URL: http://www.national.com/packaging/folders/ts7b.html
footprint TS7B_N (D2-PAK, 8-Leads, Body 8.6x10.2mm, Pitch 1.27mm, Lead Span 14.1mm, IPC Medium Density)
footprint TS7B_L (D2-PAK, 8-Leads, Body 8.6x10.2mm, Pitch 1.27mm, Lead Span 14.1mm, IPC High Density)
footprint TS7B_M (D2-PAK, 8-Leads, Body 8.6x10.2mm, Pitch 1.27mm, Lead Span 14.1mm, IPC Low Density)
pins: 1 SW (power), 2 VIN (power), 3 CB, 4 GND (power), 5 ADJ (in), 6 FB (in), 7 SS (in), 8 TAB (power)

## LM2673SX-ADJ
designator U?
3A Step-Down Voltage Regulator with Adjustable Current Limit, 7-pin TO-263; PartNumber: LM2673SX-ADJ; Manufacturer: National Semiconductor; PackageTopMarking: NSUZXYTTE#*LM2673*S-ADJ; PowerWise: N; CompType: Switcher; High-Reliability: Y; DatasheetVersion: Feb-2008; PackageVersion: revE, Jul-2003; PackageReference: TS7B; PackageDescription: TO-263, Molded, .400 x .390 x .180in Body, 7 Lead, .050in Pitch, Surface Mount; RoHS: N; PinCount: 7; Code_JEDEC: MO-169-AC; ComponentLink1Description: Manufacturer URL; ComponentLink1URL: http://www.national.com/; ComponentLink2Description: LM2673 Datasheet; ComponentLink2URL: http://www.national.com/ds/LM/LM2673.pdf; ComponentLink3Description: LM2673 Web Page; ComponentLink3URL: http://www.national.com/pf/LM/LM2673.html; ComponentLink4Description: TS7B Package Page; ComponentLink4URL: http://www.national.com/packaging/folders/ts7b.html
footprint TS7B_N (D2-PAK, 8-Leads, Body 8.6x10.2mm, Pitch 1.27mm, Lead Span 14.1mm, IPC Medium Density)
footprint TS7B_L (D2-PAK, 8-Leads, Body 8.6x10.2mm, Pitch 1.27mm, Lead Span 14.1mm, IPC High Density)
footprint TS7B_M (D2-PAK, 8-Leads, Body 8.6x10.2mm, Pitch 1.27mm, Lead Span 14.1mm, IPC Low Density)
pins: 1 SW (power), 2 VIN (power), 3 CB, 4 GND (power), 5 ADJ (in), 6 FB (in), 7 SS (in), 8 TAB (power)

## LM2673T-3.3
designator U?
3A Step-Down Voltage Regulator with Adjustable Current Limit, 7-pin TO-220; PartNumber: LM2673T-3.3; Manufacturer: National Semiconductor; PackageTopMarking: NSUZXYTTE#*LM2673*T-3.3; PowerWise: N; CompType: Switcher; High-Reliability: Y; DatasheetVersion: Feb-2008; PackageVersion: revC, Apr-1999; PackageReference: TA07B; PackageDescription: TO-220, Molded, .400 x .590 x .180in Body, 7 Lead, .050in Pitch, Staggered; RoHS: N; PinCount: 7; Code_JEDEC: TO-220-AB; ComponentLink1Description: Manufacturer URL; ComponentLink1URL: http://www.national.com/; ComponentLink2Description: LM2673 Datasheet; ComponentLink2URL: http://www.national.com/ds/LM/LM2673.pdf; ComponentLink3Description: LM2673 Web Page; ComponentLink3URL: http://www.national.com/pf/LM/LM2673.html; ComponentLink4Description: TA07B Package Page; ComponentLink4URL: http://www.national.com/packaging/folders/ta07b.html
footprint TA07B (TO, Thru-Hole, Vertical, Heatsink Mounted; 7 Bent Staggered Leads; Body 10.2x8.7x4.6mm, Pitch 1.27 mm)
pins: 1 SW (power), 2 VIN (power), 3 CB, 4 GND (power), 5 ADJ (in), 6 FB (in), 7 SS (in)

## LM2673T-5.0
designator U?
3A Step-Down Voltage Regulator with Adjustable Current Limit, 7-pin TO-220; PartNumber: LM2673T-5.0; Manufacturer: National Semiconductor; PackageTopMarking: NSUZXYTTE#*LM2673*T-5.0; PowerWise: N; CompType: Switcher; High-Reliability: Y; DatasheetVersion: Feb-2008; PackageVersion: revC, Apr-1999; PackageReference: TA07B; PackageDescription: TO-220, Molded, .400 x .590 x .180in Body, 7 Lead, .050in Pitch, Staggered; RoHS: N; PinCount: 7; Code_JEDEC: TO-220-AB; ComponentLink1Description: Manufacturer URL; ComponentLink1URL: http://www.national.com/; ComponentLink2Description: LM2673 Datasheet; ComponentLink2URL: http://www.national.com/ds/LM/LM2673.pdf; ComponentLink3Description: LM2673 Web Page; ComponentLink3URL: http://www.national.com/pf/LM/LM2673.html; ComponentLink4Description: TA07B Package Page; ComponentLink4URL: http://www.national.com/packaging/folders/ta07b.html
footprint TA07B (TO, Thru-Hole, Vertical, Heatsink Mounted; 7 Bent Staggered Leads; Body 10.2x8.7x4.6mm, Pitch 1.27 mm)
pins: 1 SW (power), 2 VIN (power), 3 CB, 4 GND (power), 5 ADJ (in), 6 FB (in), 7 SS (in)

## LM2673T-5.0/NOPB
designator U?
3A Step-Down Voltage Regulator with Adjustable Current Limit, 7-pin TO-220, Pb-Free; PartNumber: LM2673T-5.0/NOPB; Manufacturer: National Semiconductor; PackageTopMarking: NSUZXYTTE#*LM2673*T-5.0; PowerWise: N; CompType: Switcher; High-Reliability: Y; DatasheetVersion: Feb-2008; PackageVersion: revC, Apr-1999; PackageReference: TA07B; PackageDescription: TO-220, Molded, .400 x .590 x .180in Body, 7 Lead, .050in Pitch, Staggered; RoHS: Y; PinCount: 7; Code_JEDEC: TO-220-AB; ComponentLink1Description: Manufacturer URL; ComponentLink1URL: http://www.national.com/; ComponentLink2Description: LM2673 Datasheet; ComponentLink2URL: http://www.national.com/ds/LM/LM2673.pdf; ComponentLink3Description: LM2673 Web Page; ComponentLink3URL: http://www.national.com/pf/LM/LM2673.html; ComponentLink4Description: TA07B Package Page; ComponentLink4URL: http://www.national.com/packaging/folders/ta07b.html
footprint TA07B (TO, Thru-Hole, Vertical, Heatsink Mounted; 7 Bent Staggered Leads; Body 10.2x8.7x4.6mm, Pitch 1.27 mm)
pins: 1 SW (power), 2 VIN (power), 3 CB, 4 GND (power), 5 ADJ (in), 6 FB (in), 7 SS (in)

## LM2673T-12
designator U?
3A Step-Down Voltage Regulator with Adjustable Current Limit, 7-pin TO-220; PartNumber: LM2673T-12; Manufacturer: National Semiconductor; PackageTopMarking: NSUZXYTTE#*LM2673*T-12; PowerWise: N; CompType: Switcher; High-Reliability: Y; DatasheetVersion: Feb-2008; PackageVersion: revC, Apr-1999; PackageReference: TA07B; PackageDescription: TO-220, Molded, .400 x .590 x .180in Body, 7 Lead, .050in Pitch, Staggered; RoHS: N; PinCount: 7; Code_JEDEC: TO-220-AB; ComponentLink1Description: Manufacturer URL; ComponentLink1URL: http://www.national.com/; ComponentLink2Description: LM2673 Datasheet; ComponentLink2URL: http://www.national.com/ds/LM/LM2673.pdf; ComponentLink3Description: LM2673 Web Page; ComponentLink3URL: http://www.national.com/pf/LM/LM2673.html; ComponentLink4Description: TA07B Package Page; ComponentLink4URL: http://www.national.com/packaging/folders/ta07b.html
footprint TA07B (TO, Thru-Hole, Vertical, Heatsink Mounted; 7 Bent Staggered Leads; Body 10.2x8.7x4.6mm, Pitch 1.27 mm)
pins: 1 SW (power), 2 VIN (power), 3 CB, 4 GND (power), 5 ADJ (in), 6 FB (in), 7 SS (in)

## LM2673T-12/NOPB
designator U?
3A Step-Down Voltage Regulator with Adjustable Current Limit, 7-pin TO-220, Pb-Free; PartNumber: LM2673T-12/NOPB; Manufacturer: National Semiconductor; PackageTopMarking: NSUZXYTTE#*LM2673*T-12; PowerWise: N; CompType: Switcher; High-Reliability: Y; DatasheetVersion: Feb-2008; PackageVersion: revC, Apr-1999; PackageReference: TA07B; PackageDescription: TO-220, Molded, .400 x .590 x .180in Body, 7 Lead, .050in Pitch, Staggered; RoHS: Y; PinCount: 7; Code_JEDEC: TO-220-AB; ComponentLink1Description: Manufacturer URL; ComponentLink1URL: http://www.national.com/; ComponentLink2Description: LM2673 Datasheet; ComponentLink2URL: http://www.national.com/ds/LM/LM2673.pdf; ComponentLink3Description: LM2673 Web Page; ComponentLink3URL: http://www.national.com/pf/LM/LM2673.html; ComponentLink4Description: TA07B Package Page; ComponentLink4URL: http://www.national.com/packaging/folders/ta07b.html
footprint TA07B (TO, Thru-Hole, Vertical, Heatsink Mounted; 7 Bent Staggered Leads; Body 10.2x8.7x4.6mm, Pitch 1.27 mm)
pins: 1 SW (power), 2 VIN (power), 3 CB, 4 GND (power), 5 ADJ (in), 6 FB (in), 7 SS (in)

## LM2673T-ADJ
designator U?
3A Step-Down Voltage Regulator with Adjustable Current Limit, 7-pin TO-220; PartNumber: LM2673T-ADJ; Manufacturer: National Semiconductor; PackageTopMarking: NSUZXYTTE#*LM2673*T-ADJ; PowerWise: N; CompType: Switcher; High-Reliability: Y; DatasheetVersion: Feb-2008; PackageVersion: revC, Apr-1999; PackageReference: TA07B; PackageDescription: TO-220, Molded, .400 x .590 x .180in Body, 7 Lead, .050in Pitch, Staggered; RoHS: N; PinCount: 7; Code_JEDEC: TO-220-AB; ComponentLink1Description: Manufacturer URL; ComponentLink1URL: http://www.national.com/; ComponentLink2Description: LM2673 Datasheet; ComponentLink2URL: http://www.national.com/ds/LM/LM2673.pdf; ComponentLink3Description: LM2673 Web Page; ComponentLink3URL: http://www.national.com/pf/LM/LM2673.html; ComponentLink4Description: TA07B Package Page; ComponentLink4URL: http://www.national.com/packaging/folders/ta07b.html
footprint TA07B (TO, Thru-Hole, Vertical, Heatsink Mounted; 7 Bent Staggered Leads; Body 10.2x8.7x4.6mm, Pitch 1.27 mm)
pins: 1 SW (power), 2 VIN (power), 3 CB, 4 GND (power), 5 ADJ (in), 6 FB (in), 7 SS (in)

## LM2673T-ADJ/NOPB
designator U?
3A Step-Down Voltage Regulator with Adjustable Current Limit, 7-pin TO-220, Pb-Free; PartNumber: LM2673T-ADJ/NOPB; Manufacturer: National Semiconductor; PackageTopMarking: NSUZXYTTE#*LM2673*T-ADJ; PowerWise: N; CompType: Switcher; High-Reliability: Y; DatasheetVersion: Feb-2008; PackageVersion: revC, Apr-1999; PackageReference: TA07B; PackageDescription: TO-220, Molded, .400 x .590 x .180in Body, 7 Lead, .050in Pitch, Staggered; RoHS: Y; PinCount: 7; Code_JEDEC: TO-220-AB; ComponentLink1Description: Manufacturer URL; ComponentLink1URL: http://www.national.com/; ComponentLink2Description: LM2673 Datasheet; ComponentLink2URL: http://www.national.com/ds/LM/LM2673.pdf; ComponentLink3Description: LM2673 Web Page; ComponentLink3URL: http://www.national.com/pf/LM/LM2673.html; ComponentLink4Description: TA07B Package Page; ComponentLink4URL: http://www.national.com/packaging/folders/ta07b.html
footprint TA07B (TO, Thru-Hole, Vertical, Heatsink Mounted; 7 Bent Staggered Leads; Body 10.2x8.7x4.6mm, Pitch 1.27 mm)
pins: 1 SW (power), 2 VIN (power), 3 CB, 4 GND (power), 5 ADJ (in), 6 FB (in), 7 SS (in)

## LM2674LD-3.3
designator U?
SIMPLE SWITCHER® Power Converter High Efficiency 500mA Step-Down Voltage Regulator, 16-pin LLP; PartNumber: LM2674LD-3.3; Manufacturer: National Semiconductor; PackageTopMarking: NS*UZXYTT*S000AB; PowerWise: N; High-Reliability: Y; DatasheetVersion: Mar-2005; PackageVersion: revA, Nov-2000; PackageReference: LDA16A; PackageDescription: LLP, Plastic, Dual, 5 x 5 x 0.75mm Body, 16 Lead, 0.5mm Pitch; RoHS: N; PinCount: 16; CompType: Switcher; ComponentLink1Description: Manufacturer URL; ComponentLink1URL: http://www.national.com/; ComponentLink2Description: LM2674 Datasheet; ComponentLink2URL: http://www.national.com/ds/LM/LM2674.pdf; ComponentLink3Description: LM2674 Web Page; ComponentLink3URL: http://www.national.com/pf/LM/LM2674.html; ComponentLink4Description: LDA16A Package Page; ComponentLink4URL: http://www.national.com/packaging/folders/lda16a.html
footprint LDA16A (PSON, 16-Leads, Body 5x5 mm, Pitch 0.5mm, NSC Recommended)
pins: 1 CB, 2 NC, 3 NC, 4 NC, 5 NC, 6 NC, 7 NC, 8 FB (in), 9 ON/~{OFF} (in), 10 NC, 11 GND (power), 12 GND (power), 13 NC, 14 VIN (power), 15 VSW (power), 16 VSW (power), 17 DAP (power)

## LM2674LD-3.3/NOPB
designator U?
SIMPLE SWITCHER® Power Converter High Efficiency 500mA Step-Down Voltage Regulator, 16-pin LLP, Pb-Free; PartNumber: LM2674LD-3.3/NOPB; Manufacturer: National Semiconductor; PackageTopMarking: NS*UZXYTT*S000AB; PowerWise: N; High-Reliability: Y; DatasheetVersion: Mar-2005; PackageVersion: revA, Nov-2000; PackageReference: LDA16A; PackageDescription: LLP, Plastic, Dual, 5 x 5 x 0.75mm Body, 16 Lead, 0.5mm Pitch; RoHS: Y; PinCount: 16; CompType: Switcher; ComponentLink1Description: Manufacturer URL; ComponentLink1URL: http://www.national.com/; ComponentLink2Description: LM2674 Datasheet; ComponentLink2URL: http://www.national.com/ds/LM/LM2674.pdf; ComponentLink3Description: LM2674 Web Page; ComponentLink3URL: http://www.national.com/pf/LM/LM2674.html; ComponentLink4Description: LDA16A Package Page; ComponentLink4URL: http://www.national.com/packaging/folders/lda16a.html
footprint LDA16A (PSON, 16-Leads, Body 5x5 mm, Pitch 0.5mm, NSC Recommended)
pins: 1 CB, 2 NC, 3 NC, 4 NC, 5 NC, 6 NC, 7 NC, 8 FB (in), 9 ON/~{OFF} (in), 10 NC, 11 GND (power), 12 GND (power), 13 NC, 14 VIN (power), 15 VSW (power), 16 VSW (power), 17 DAP (power)

## LM2674LD-ADJ
designator U?
SIMPLE SWITCHER® Power Converter High Efficiency 500mA Step-Down Voltage Regulator, 16-pin LLP; PartNumber: LM2674LD-ADJ; Manufacturer: National Semiconductor; PackageTopMarking: NS*UZXYTT*S000CB; PowerWise: N; High-Reliability: Y; DatasheetVersion: Mar-2005; PackageVersion: revA, Nov-2000; PackageReference: LDA16A; PackageDescription: LLP, Plastic, Dual, 5 x 5 x 0.75mm Body, 16 Lead, 0.5mm Pitch; RoHS: N; PinCount: 16; CompType: Switcher; ComponentLink1Description: Manufacturer URL; ComponentLink1URL: http://www.national.com/; ComponentLink2Description: LM2674 Datasheet; ComponentLink2URL: http://www.national.com/ds/LM/LM2674.pdf; ComponentLink3Description: LM2674 Web Page; ComponentLink3URL: http://www.national.com/pf/LM/LM2674.html; ComponentLink4Description: LDA16A Package Page; ComponentLink4URL: http://www.national.com/packaging/folders/lda16a.html
footprint LDA16A (PSON, 16-Leads, Body 5x5 mm, Pitch 0.5mm, NSC Recommended)
pins: 1 CB, 2 NC, 3 NC, 4 NC, 5 NC, 6 NC, 7 NC, 8 FB (in), 9 ON/~{OFF} (in), 10 NC, 11 GND (power), 12 GND (power), 13 NC, 14 VIN (power), 15 VSW (power), 16 VSW (power), 17 DAP (power)

## LM2674LD-ADJ/NOPB
designator U?
SIMPLE SWITCHER® Power Converter High Efficiency 500mA Step-Down Voltage Regulator, 16-pin LLP, Pb-Free; PartNumber: LM2674LD-ADJ/NOPB; Manufacturer: National Semiconductor; PackageTopMarking: NS*UZXYTT*S000CB; PowerWise: N; High-Reliability: Y; DatasheetVersion: Mar-2005; PackageVersion: revA, Nov-2000; PackageReference: LDA16A; PackageDescription: LLP, Plastic, Dual, 5 x 5 x 0.75mm Body, 16 Lead, 0.5mm Pitch; RoHS: Y; PinCount: 16; CompType: Switcher; ComponentLink1Description: Manufacturer URL; ComponentLink1URL: http://www.national.com/; ComponentLink2Description: LM2674 Datasheet; ComponentLink2URL: http://www.national.com/ds/LM/LM2674.pdf; ComponentLink3Description: LM2674 Web Page; ComponentLink3URL: http://www.national.com/pf/LM/LM2674.html; ComponentLink4Description: LDA16A Package Page; ComponentLink4URL: http://www.national.com/packaging/folders/lda16a.html
footprint LDA16A (PSON, 16-Leads, Body 5x5 mm, Pitch 0.5mm, NSC Recommended)
pins: 1 CB, 2 NC, 3 NC, 4 NC, 5 NC, 6 NC, 7 NC, 8 FB (in), 9 ON/~{OFF} (in), 10 NC, 11 GND (power), 12 GND (power), 13 NC, 14 VIN (power), 15 VSW (power), 16 VSW (power), 17 DAP (power)

## LM2674LDX-5.0
designator U?
SIMPLE SWITCHER® Power Converter High Efficiency 500mA Step-Down Voltage Regulator, 16-pin LLP; PartNumber: LM2674LDX-5.0; Manufacturer: National Semiconductor; PackageTopMarking: NS*UZXYTT*S000BB; PowerWise: N; High-Reliability: Y; DatasheetVersion: Mar-2005; PackageVersion: revA, Nov-2000; PackageReference: LDA16A; PackageDescription: LLP, Plastic, Dual, 5 x 5 x 0.75mm Body, 16 Lead, 0.5mm Pitch; RoHS: N; PinCount: 16; CompType: Switcher; ComponentLink1Description: Manufacturer URL; ComponentLink1URL: http://www.national.com/; ComponentLink2Description: LM2674 Datasheet; ComponentLink2URL: http://www.national.com/ds/LM/LM2674.pdf; ComponentLink3Description: LM2674 Web Page; ComponentLink3URL: http://www.national.com/pf/LM/LM2674.html; ComponentLink4Description: LDA16A Package Page; ComponentLink4URL: http://www.national.com/packaging/folders/lda16a.html
footprint LDA16A (PSON, 16-Leads, Body 5x5 mm, Pitch 0.5mm, NSC Recommended)
pins: 1 CB, 2 NC, 3 NC, 4 NC, 5 NC, 6 NC, 7 NC, 8 FB (in), 9 ON/~{OFF} (in), 10 NC, 11 GND (power), 12 GND (power), 13 NC, 14 VIN (power), 15 VSW (power), 16 VSW (power), 17 DAP (power)